# Altium schematic symbol library Sic_PowerBoard.SchLib: 16 symbols
Pins are listed as number, name and electrical type; pins without a type are passive.

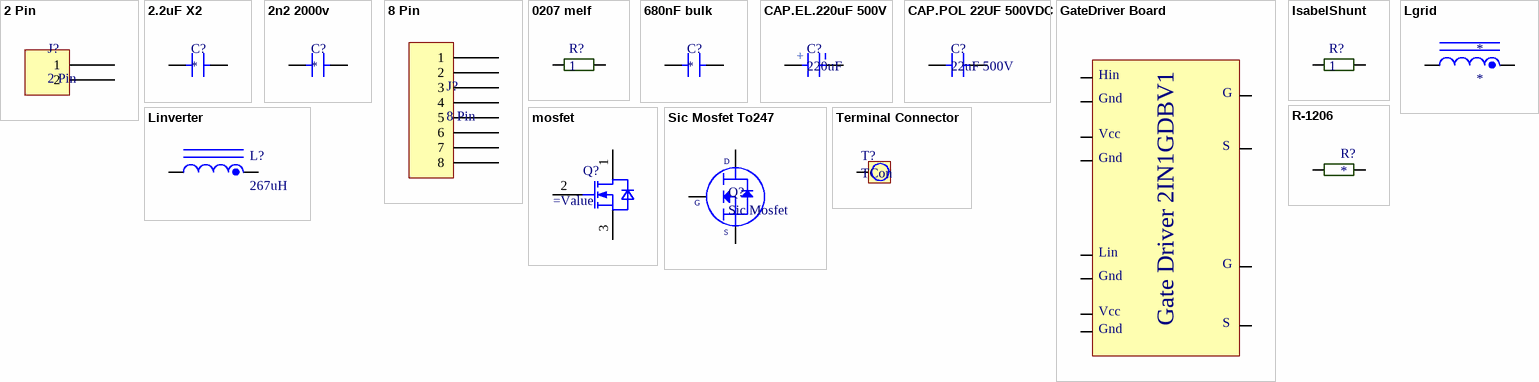
[diagram p0: symbols 2 Pin to Terminal Connector]

## 2 Pin
designator J?
footprint 2pin
pins: 1, 2

## 2.2uF X2
designator C?
footprint CAP.POL 2.2UF  x2
pins: 1, 2

## 2n2 2000v
designator C?
footprint 2n2 2000v
pins: 1, 2

## 8 Pin
designator J?
footprint 8 pin connector
pins: 1, 2, 3, 4, 5, 6, 7, 8

## 0207 melf
designator R?, comment 1
ComponentLink1Description: https://www.ozdisan.com/pasif-komponentler/direncler/smt-smd-direncler/M271UFG100KT20; ComponentLink1URL: https://www.ozdisan.com/pasif-komponentler/direncler/smt-smd-direncler/M271UFG100KT20
footprint R-2512W (resistor 2512 wave soldering)
pins: 1, 2

## 680nF bulk
designator C?
footprint 680nF bulk
pins: 1, 2

## CAP.EL.220uF 500V
designator C?, comment 220uF
ComponentLink1Description: https://www.ozdisan.com/pasif-komponentler/kondansatorler/aluminyum-kondansatorler/K055002210PM0E040; ComponentLink1URL: https://www.ozdisan.com/pasif-komponentler/kondansatorler/aluminyum-kondansatorler/K055002210PM0E040
footprint CAP.EL.220uF 500V
pins: 1, 2
text: +

## CAP.POL 22UF 500VDC
designator C?, comment 22uF 500V
ComponentLink1Description: https://www.ozdisan.com/pasif-komponentler/kondansatorler/film-kondansatorler/C3D2H226JB00C00; ComponentLink1URL: https://www.ozdisan.com/pasif-komponentler/kondansatorler/film-kondansatorler/C3D2H226JB00C00
footprint CAP.POL 22UF 500VDC - duplicate
pins: 1, 2

## GateDriver Board
designator G?  (value not drawn)
footprint Gate Driver
pins: 1, 2, 3, 4, 5, 6, 7, 8, 9, 10, 11, 12
text: Hin; G; Gnd; Vcc; S; Lin; Gate Driver 2IN1GDBV1

## IsabelShunt
designator R?, comment 1
ComponentLink1Description: https://www.ozdisan.com/pasif-komponentler/direncler/smt-smd-direncler/M271UFG100KT20; ComponentLink1URL: https://www.ozdisan.com/pasif-komponentler/direncler/smt-smd-direncler/M271UFG100KT20
footprint R-2512W (resistor 2512 wave soldering)
pins: 1, 2

## Lgrid
designator *
footprint Lgrid
pins: 1, 2

## Linverter
designator L?, comment 267uH
footprint Linverter
pins: 1, 2

## mosfet
designator Q?
Insulated-Gate Field-Effect Transistor (IGFET), N-Channel, Enhancement, Body Diode, Pin 1 Drain, 2 Gate, 3 Source, 3 Pins; Symbol Type: Insulated-Gate Field-Effect Transistor (IGFET), N-Channel, Enhancement, Body Diode, Pin 1 Drain, 2 Gate, 3 Source, 3 Pins
pins: 1 DRAIN, 2 GATE, 3 SOURCE

## R-1206
designator R?
Res1206
footprint R-1206
pins: 1, 2

## Sic Mosfet To247
designator Q?, comment Sic Mosfet
SiC Mosfet To247
footprint IFX-PG-TO247-3-41 (TO247-Diode; 3 pin, 5.44 mm pitch, 15.90 mm L X 5.00 mm W X 26.00 mm H body)
pins: 1, 2, 3
text: D; G; S

## Terminal Connector
designator T?, comment TCon
ComponentLink1Description: https://www.ozdisan.com/konnektor-baglanti-elemanlari/terminal-konnektorler/vida-tipi-konnektorler/K36-00AH; ComponentLink1URL: https://www.ozdisan.com/konnektor-baglanti-elemanlari/terminal-konnektorler/vida-tipi-konnektorler/K36-00AH
footprint tCon
footprint tCon
pins: 1